# EAGLE library part CON-20 (library firefly)
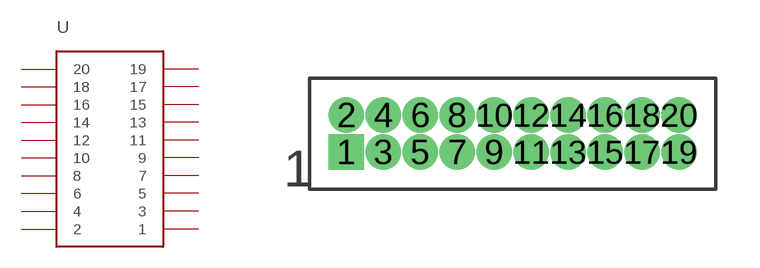
[diagram p44: symbol with the pads of CON-HEADER-2X10-0.05; footprint CON-HEADER-2X10-0.05]

Designator prefix -

## CON-200.05"  [CON-HEADER-2X10-0.05]
1  1
2  2
3  3
4  4
5  5
6  6
7  7
8  8
9  9
10  10
11  11
12  12
13  13
14  14
15  15
16  16
17  17
18  18
19  19
20  20

## Footprint CON-HEADER-2X10-0.05 (pad centres in mm)
drill 0.711 pad 1.016 square: 1 -5.715,-0.635
drill 0.711 pad 1.016: 2 -5.715,0.635; 3 -4.445,-0.635; 4 -4.445,0.635; 5 -3.175,-0.635; 6 -3.175,0.635; 7 -1.905,-0.635; 8 -1.905,0.635; 9 -0.635,-0.635; 10 -0.635,0.635; 11 0.635,-0.635; 12 0.635,0.635; 13 1.905,-0.635; 14 1.905,0.635; 15 3.175,-0.635; 16 3.175,0.635; 17 4.445,-0.635; 18 4.445,0.635; 19 5.715,-0.635; 20 5.715,0.635